# Altium footprint library Molex Footprints.PcbLib: 498 footprints (part 26 of 32)
Each footprint in its own frame and in the unit in brackets; x right, y up, seen from the top. Pads: shape width x height; smd on the part's side, far side on the other; paste and mask are expansions set on the pad; w line width, h text height; cw(c..) or ccw(c..) is an arc to the next point about the centre after c.
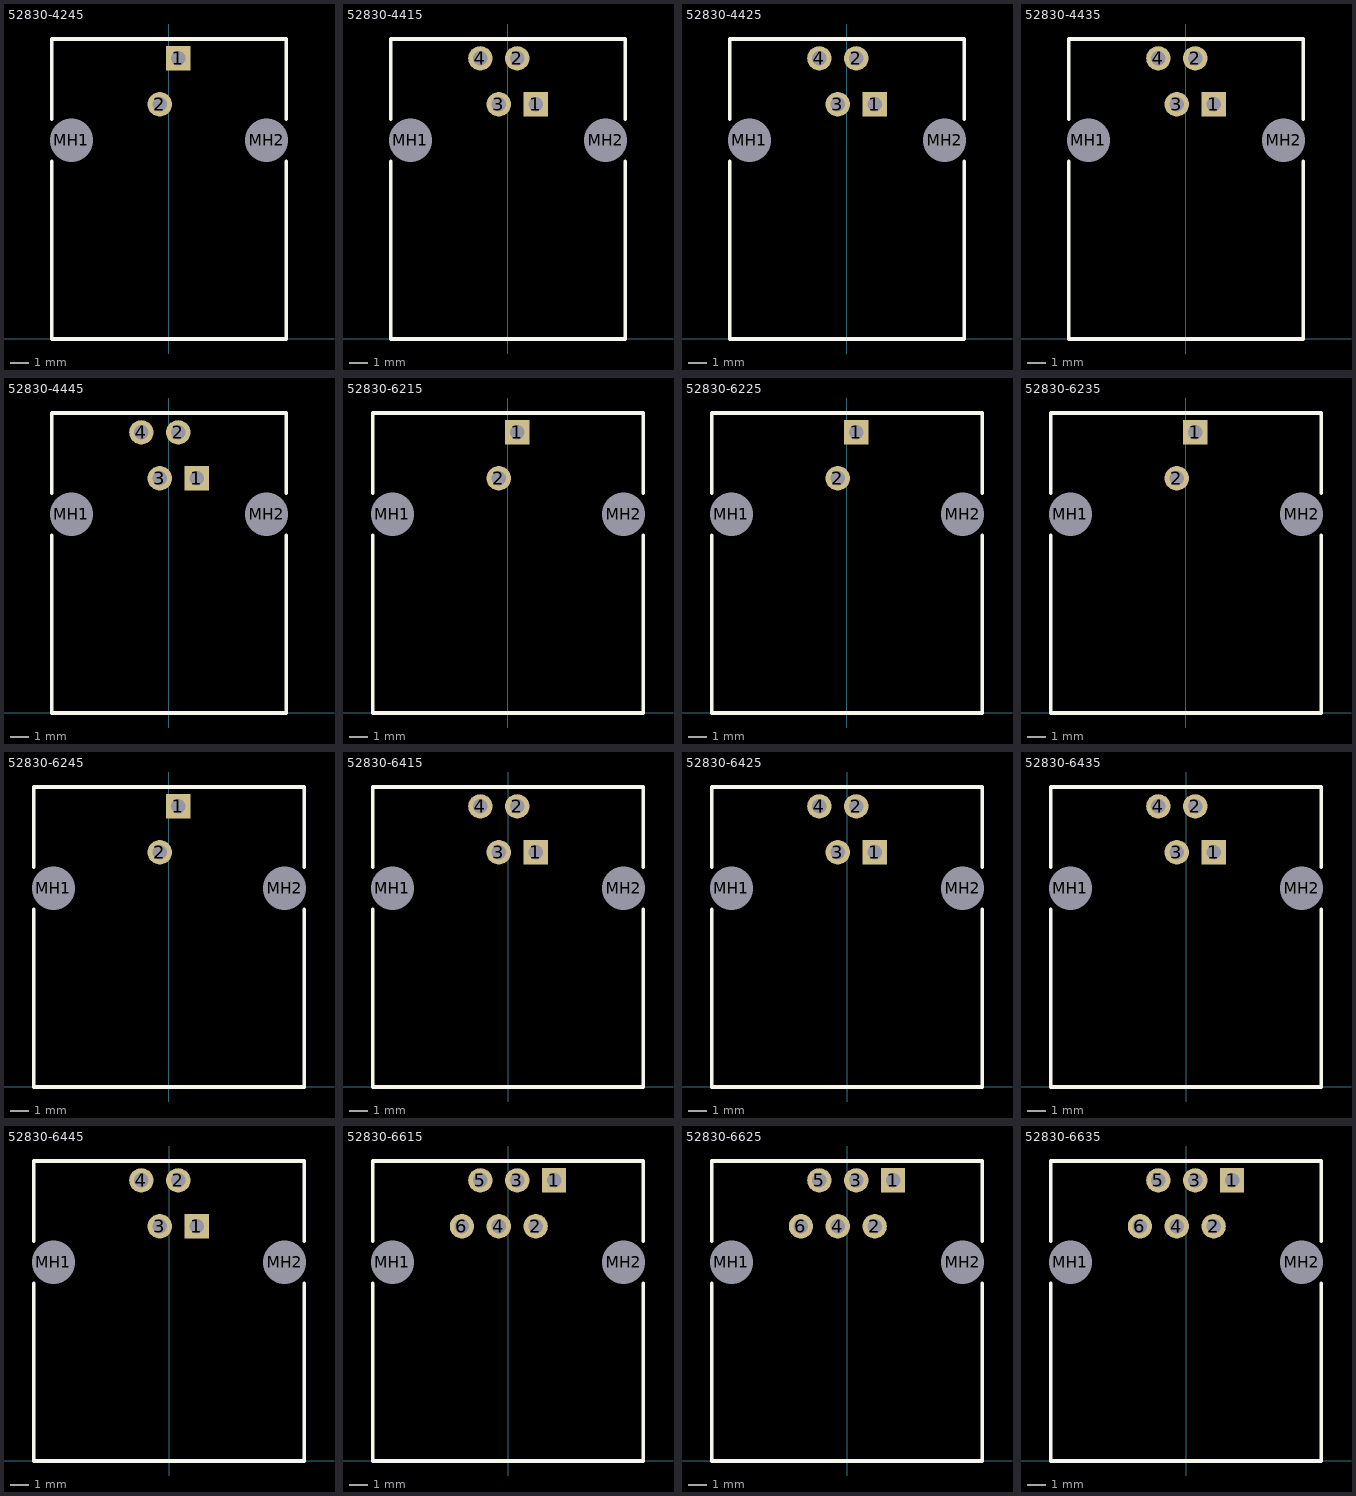
[diagram p25: the footprints below, top view; thin cyan lines are the x and y axes]

## 52830-4245 [mm] "Connector; PCB Jack, Thru-Hole; 1-Port, 4 Positions, 2 Loaded; Unshielded without Lightpipes; Right Angle"
height 14.5
pads (4):
  rect 1.35x1.35 hole 0.8: 1(0.51,15.54)
  round 1.35 hole 0.8: 2(-0.51,13)
  round 2.1 hole 2.4 unplated: MH1(-5.4,11) MH2(5.4,11)
Top Overlay:
  lines w0.2: -6.5,9.838 -6.5,0 6.5,0 6.5,9.838 ; -6.5,12.162 -6.5,16.615 6.5,16.615 6.5,12.162

## 52830-4415 [mm] "Connector; PCB Jack, Thru-Hole; 1-Port, 4 Positions, 4 Loaded; Unshielded without Lightpipes; Right Angle"
height 14.5
pads (6):
  rect 1.35x1.35 hole 0.8: 1(1.53,13)
  round 1.35 hole 0.8: 2(0.51,15.54) 3(-0.51,13) 4(-1.53,15.54)
  round 2.1 hole 2.4 unplated: MH1(-5.4,11) MH2(5.4,11)
Top Overlay:
  lines w0.2: -6.5,9.838 -6.5,0 6.5,0 6.5,9.838 ; -6.5,12.162 -6.5,16.615 6.5,16.615 6.5,12.162

## 52830-4425 [mm] "Connector; PCB Jack, Thru-Hole; 1-Port, 4 Positions, 4 Loaded; Unshielded without Lightpipes; Right Angle"
height 14.5
pads (6):
  rect 1.35x1.35 hole 0.8: 1(1.53,13)
  round 1.35 hole 0.8: 2(0.51,15.54) 3(-0.51,13) 4(-1.53,15.54)
  round 2.1 hole 2.4 unplated: MH1(-5.4,11) MH2(5.4,11)
Top Overlay:
  lines w0.2: -6.5,9.838 -6.5,0 6.5,0 6.5,9.838 ; -6.5,12.162 -6.5,16.615 6.5,16.615 6.5,12.162

## 52830-4435 [mm] "Connector; PCB Jack, Thru-Hole; 1-Port, 4 Positions, 4 Loaded; Unshielded without Lightpipes; Right Angle"
height 14.5
pads (6):
  rect 1.35x1.35 hole 0.8: 1(1.53,13)
  round 1.35 hole 0.8: 2(0.51,15.54) 3(-0.51,13) 4(-1.53,15.54)
  round 2.1 hole 2.4 unplated: MH1(-5.4,11) MH2(5.4,11)
Top Overlay:
  lines w0.2: -6.5,9.838 -6.5,0 6.5,0 6.5,9.838 ; -6.5,12.162 -6.5,16.615 6.5,16.615 6.5,12.162

## 52830-4445 [mm] "Connector; PCB Jack, Thru-Hole; 1-Port, 4 Positions, 4 Loaded; Unshielded without Lightpipes; Right Angle"
height 14.5
pads (6):
  rect 1.35x1.35 hole 0.8: 1(1.53,13)
  round 1.35 hole 0.8: 2(0.51,15.54) 3(-0.51,13) 4(-1.53,15.54)
  round 2.1 hole 2.4 unplated: MH1(-5.4,11) MH2(5.4,11)
Top Overlay:
  lines w0.2: -6.5,9.838 -6.5,0 6.5,0 6.5,9.838 ; -6.5,12.162 -6.5,16.615 6.5,16.615 6.5,12.162

## 52830-6215 [mm] "Connector; PCB Jack, Thru-Hole; 1-Port, 6 Positions, 2 Loaded; Unshielded without Lightpipes; Right Angle"
height 14.5
pads (4):
  rect 1.35x1.35 hole 0.8: 1(0.51,15.54)
  round 1.35 hole 0.8: 2(-0.51,13)
  round 2.1 hole 2.4 unplated: MH1(-6.4,11) MH2(6.4,11)
Top Overlay:
  lines w0.2: -7.5,9.838 -7.5,0 7.5,0 7.5,9.838 ; -7.5,12.162 -7.5,16.615 7.5,16.615 7.5,12.162

## 52830-6225 [mm] "Connector; PCB Jack, Thru-Hole; 1-Port, 6 Positions, 2 Loaded; Unshielded without Lightpipes; Right Angle"
height 14.5
pads (4):
  rect 1.35x1.35 hole 0.8: 1(0.51,15.54)
  round 1.35 hole 0.8: 2(-0.51,13)
  round 2.1 hole 2.4 unplated: MH1(-6.4,11) MH2(6.4,11)
Top Overlay:
  lines w0.2: -7.5,9.838 -7.5,0 7.5,0 7.5,9.838 ; -7.5,12.162 -7.5,16.615 7.5,16.615 7.5,12.162

## 52830-6235 [mm] "Connector; PCB Jack, Thru-Hole; 1-Port, 6 Positions, 2 Loaded; Unshielded without Lightpipes; Right Angle"
height 14.5
pads (4):
  rect 1.35x1.35 hole 0.8: 1(0.51,15.54)
  round 1.35 hole 0.8: 2(-0.51,13)
  round 2.1 hole 2.4 unplated: MH1(-6.4,11) MH2(6.4,11)
Top Overlay:
  lines w0.2: -7.5,9.838 -7.5,0 7.5,0 7.5,9.838 ; -7.5,12.162 -7.5,16.615 7.5,16.615 7.5,12.162

## 52830-6245 [mm] "Connector; PCB Jack, Thru-Hole; 1-Port, 6 Positions, 2 Loaded; Unshielded without Lightpipes; Right Angle"
height 14.5
pads (4):
  rect 1.35x1.35 hole 0.8: 1(0.51,15.54)
  round 1.35 hole 0.8: 2(-0.51,13)
  round 2.1 hole 2.4 unplated: MH1(-6.4,11) MH2(6.4,11)
Top Overlay:
  lines w0.2: -7.5,9.838 -7.5,0 7.5,0 7.5,9.838 ; -7.5,12.162 -7.5,16.615 7.5,16.615 7.5,12.162

## 52830-6415 [mm] "Connector; PCB Jack, Thru-Hole; 1-Port, 6 Positions, 4 Loaded; Unshielded without Lightpipes; Right Angle"
height 14.5
pads (6):
  rect 1.35x1.35 hole 0.8: 1(1.53,13)
  round 1.35 hole 0.8: 2(0.51,15.54) 3(-0.51,13) 4(-1.53,15.54)
  round 2.1 hole 2.4 unplated: MH1(-6.4,11) MH2(6.4,11)
Top Overlay:
  lines w0.2: -7.5,9.838 -7.5,0 7.5,0 7.5,9.838 ; -7.5,12.162 -7.5,16.615 7.5,16.615 7.5,12.162

## 52830-6425 [mm] "Connector; PCB Jack, Thru-Hole; 1-Port, 6 Positions, 4 Loaded; Unshielded without Lightpipes; Right Angle"
height 14.5
pads (6):
  rect 1.35x1.35 hole 0.8: 1(1.53,13)
  round 1.35 hole 0.8: 2(0.51,15.54) 3(-0.51,13) 4(-1.53,15.54)
  round 2.1 hole 2.4 unplated: MH1(-6.4,11) MH2(6.4,11)
Top Overlay:
  lines w0.2: -7.5,9.838 -7.5,0 7.5,0 7.5,9.838 ; -7.5,12.162 -7.5,16.615 7.5,16.615 7.5,12.162

## 52830-6435 [mm] "Connector; PCB Jack, Thru-Hole; 1-Port, 6 Positions, 4 Loaded; Unshielded without Lightpipes; Right Angle"
height 14.5
pads (6):
  rect 1.35x1.35 hole 0.8: 1(1.53,13)
  round 1.35 hole 0.8: 2(0.51,15.54) 3(-0.51,13) 4(-1.53,15.54)
  round 2.1 hole 2.4 unplated: MH1(-6.4,11) MH2(6.4,11)
Top Overlay:
  lines w0.2: -7.5,9.838 -7.5,0 7.5,0 7.5,9.838 ; -7.5,12.162 -7.5,16.615 7.5,16.615 7.5,12.162

## 52830-6445 [mm] "Connector; PCB Jack, Thru-Hole; 1-Port, 6 Positions, 4 Loaded; Unshielded without Lightpipes; Right Angle"
height 14.5
pads (6):
  rect 1.35x1.35 hole 0.8: 1(1.53,13)
  round 1.35 hole 0.8: 2(0.51,15.54) 3(-0.51,13) 4(-1.53,15.54)
  round 2.1 hole 2.4 unplated: MH1(-6.4,11) MH2(6.4,11)
Top Overlay:
  lines w0.2: -7.5,9.838 -7.5,0 7.5,0 7.5,9.838 ; -7.5,12.162 -7.5,16.615 7.5,16.615 7.5,12.162

## 52830-6615 [mm] "Connector; PCB Jack, Thru-Hole; 1-Port, 6 Positions, 6 Loaded; Unshielded without Lightpipes; Right Angle"
height 14.5
pads (8):
  rect 1.35x1.35 hole 0.8: 1(2.55,15.54)
  round 1.35 hole 0.8: 2(1.53,13) 3(0.51,15.54) 4(-0.51,13) 5(-1.53,15.54) 6(-2.55,13)
  round 2.1 hole 2.4 unplated: MH1(-6.4,11) MH2(6.4,11)
Top Overlay:
  lines w0.2: -7.5,9.838 -7.5,0 7.5,0 7.5,9.838 ; -7.5,12.162 -7.5,16.615 7.5,16.615 7.5,12.162

## 52830-6625 [mm] "Connector; PCB Jack, Thru-Hole; 1-Port, 6 Positions, 6 Loaded; Unshielded without Lightpipes; Right Angle"
height 14.5
pads (8):
  rect 1.35x1.35 hole 0.8: 1(2.55,15.54)
  round 1.35 hole 0.8: 2(1.53,13) 3(0.51,15.54) 4(-0.51,13) 5(-1.53,15.54) 6(-2.55,13)
  round 2.1 hole 2.4 unplated: MH1(-6.4,11) MH2(6.4,11)
Top Overlay:
  lines w0.2: -7.5,9.838 -7.5,0 7.5,0 7.5,9.838 ; -7.5,12.162 -7.5,16.615 7.5,16.615 7.5,12.162

## 52830-6635 [mm] "Connector; PCB Jack, Thru-Hole; 1-Port, 6 Positions, 6 Loaded; Unshielded without Lightpipes; Right Angle"
height 14.5
pads (8):
  rect 1.35x1.35 hole 0.8: 1(2.55,15.54)
  round 1.35 hole 0.8: 2(1.53,13) 3(0.51,15.54) 4(-0.51,13) 5(-1.53,15.54) 6(-2.55,13)
  round 2.1 hole 2.4 unplated: MH1(-6.4,11) MH2(6.4,11)
Top Overlay:
  lines w0.2: -7.5,9.838 -7.5,0 7.5,0 7.5,9.838 ; -7.5,12.162 -7.5,16.615 7.5,16.615 7.5,12.162